# Altium footprint library DISP.PcbLib: 1 footprints
Each footprint in its own frame and in the unit in brackets; x right, y up, seen from the top. Pads: shape width x height; smd on the part's side, far side on the other; paste and mask are expansions set on the pad; w line width, h text height; cw(c..) or ccw(c..) is an arc to the next point about the centre after c.
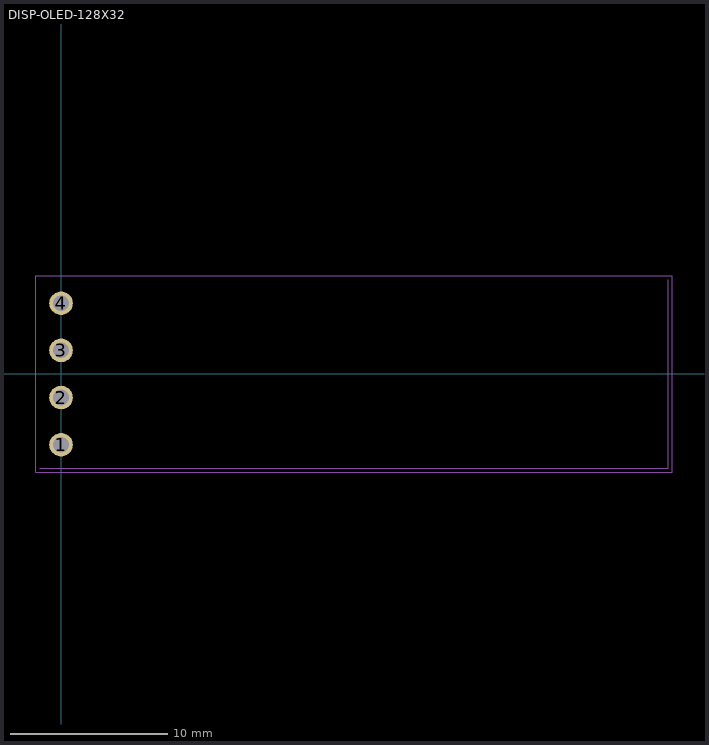
[diagram p0: the footprint, top view; thin cyan lines are the x and y axes]

## DISP-OLED-128X32 [mm]
pads (4):
  round 1.5 hole 1 mask+0.05: 1(0,-4.5) 2(0,-1.5) 3(0,1.5) 4(0,4.5)
Top Courtyard:
  lines w0.05: -1.605,-6.253 38.895,-6.253 38.895,6.247 -1.605,6.247 -1.605,-6.253
Top Assembly:
  lines w0.05: 38.638,-6 -1.362,-6 38.638,-6 ; 38.638,-6 38.638,6 38.638,-6
3D body "User Library-OLED 32x 128.STEP": height 5.46, standoff -3.5, extent -1.362,-6 38.638,6